# EAGLE library part MCP7940 (library microchip)
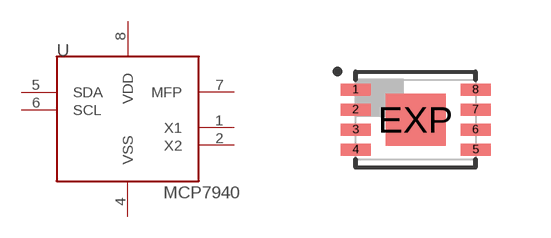
[diagram p144: symbol with the pads of TDFN8-2X3; footprint TDFN8-2X3]

Designator prefix -

## MCP7940TDFN  [TDFN8-2X3]
1  X1
2  X2
4  VSS
5  SDA
6  SCL
7  MFP
8  VDD

## Footprint TDFN8-2X3 (pad centres in mm)
smd 0.75 x 0.3: 1 -1.5,0.75; 2 -1.5,0.25; 3 -1.5,-0.25; 4 -1.5,-0.75; 5 1.5,-0.75; 6 1.5,-0.25; 7 1.5,0.25; 8 1.5,0.75
smd 1.5 x 1.3: EXP 0,0